# Altium schematic symbol library B105connectors.SchLib: 48 symbols
Pins are listed as number, name and electrical type; pins without a type are passive.

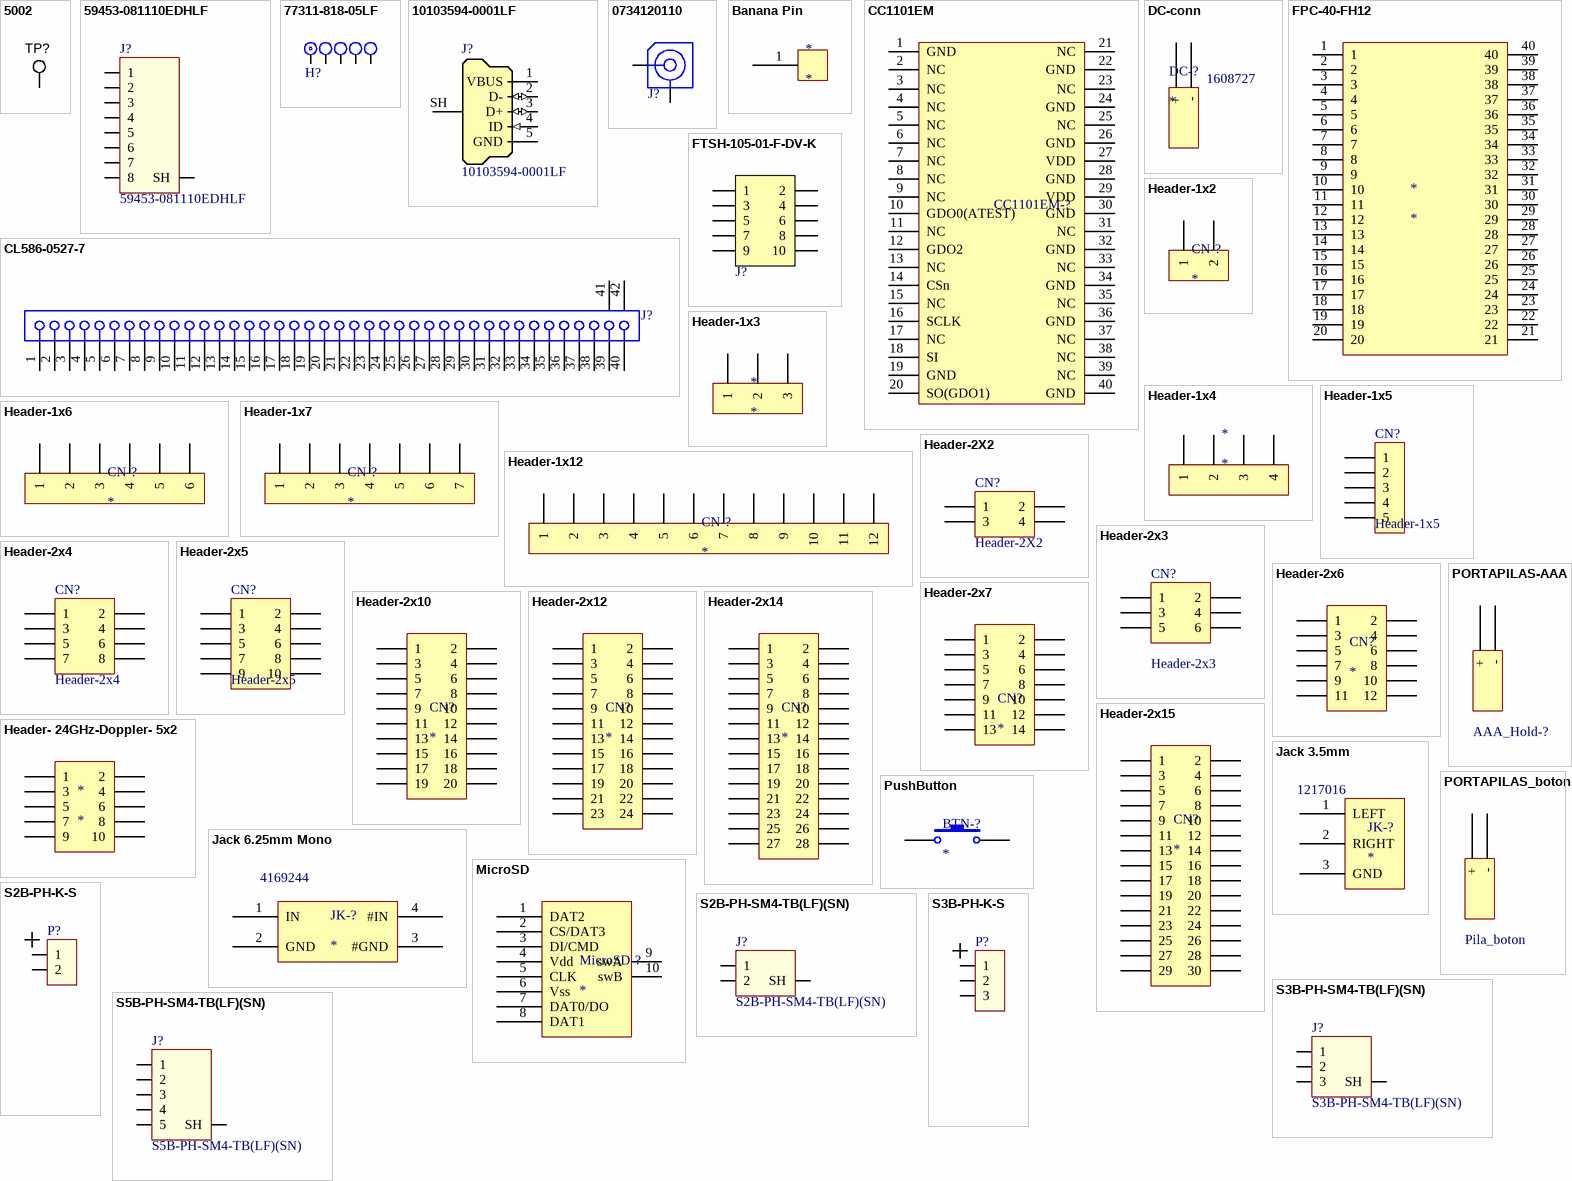
[diagram p0: symbols 5002 to S5B-PH-SM4-TB(LF)(SN)]

## 5002
designator TP?  (value not drawn)
Test Point, Miniature, White, TH; Manufacturer: Keystone; CompType: Test Point Loop; U/M: EA; SymbolVersion: 2008-04-04; Value: White; RoHS: Y; PackageReference: White Miniature Testpoint; MountType: TH; ComponentLink1Description: Datasheet Link; ComponentLink1URL: http://www.keyelco.com/userAssets/file/M60-2p60.pdf; Publisher: Texas Instruments; LatestRevisionDate: 2013-07-11; Supplier 1: Digi-Key; Supplier Part Number 1: 5002K-ND; Supplier 2: Newark; Supplier Part Number 2: 82H9632; Manufacturer Part Number: 5002
footprint Keystone5002
pins: 1

## 59453-081110EDHLF
designator J?
CONN FPC BOTTOM 8POS 0.50MM R/A; Manufacturer: Amphenol FCI; Connector/Contact Type: Contacts, Bottom; Number of Positions: 8; Pitch: 0.020" (0.50mm); FFC, FCB Thickness: 0.20mm; Locking Feature: Flip Lock, Backlock; Cable End Type: Notched; Actuator Material: Thermoplastic, Glass Filled, Halogen Free; Voltage Rating: 50V; Material Flammability Rating: UL94 V-0; Current Rating: 0.4A; Supplier 1: Digi-Key; Supplier Part Number 1: 59453-081110EDHLF-ND; Manufacturer Part Number: 59453-081110EDHLF; RoHS: RoHS Compliant; Category: Connectors, Interconnects; Packaging: Tape & Reel (TR); Part Status: Active; Flat Flex Type: FPC; Mounting Type: Surface Mount, Right Angle; Termination: Solder; Height Above Board: 0.036" (0.90mm); Contact Material: Copper Alloy; Contact Finish: Gold; Housing Material: Thermoplastic, Glass Filled, Halogen Free; Features: Solder Retention, Zero Insertion Force (ZIF); Operating Temperature: -55°C ~ 85°C; ComponentLink1URL: http://portal.fciconnect.com/Comergent//fci/drawing/59453-0_1110edhlf.pdf; ComponentLink1Description: http://portal.fciconnect.com/Comergent//fci/drawing/59453-0_1110edhlf.pdf; Supplier 2: Mouser; Supplier Part Number 2: 649-59453081110EDHLF
footprint 59453-081110ECHLF
pins: 1, 2, 3, 4, 5, 6, 7, 8, S SH

## 77311-818-05LF
designator H?  (value not drawn)
CONN HEADER .100 SINGL STR 5POS; Manufacturer: Amphenol FCI; Manufacturer Part Number: 77311-818-05LF; Pitch - Mating: 0.100" (2.54mm); Style: Board to Board; Shrouding: Unshrouded; Number of Positions: 5; Number of Positions Loaded: All; Contact Length - Mating: 0.230" (5.84mm); Contact Length - Post: 0.120" (3.05mm); Overall Contact Length: 0.450" (11.43mm); Material Flammability Rating: UL94 V-0; Supplier 1: Digi-Key; Supplier Part Number 1: 609-5127-ND; RoHS: RoHS Compliant; Category: Connectors, Interconnects; Stock: 2617; Pricing: 1=0.32, 10=0.302, 100=0.2117, 500=0.18146, 1000=0.15122, 5000=0.12962, 10000=0.12098 (EUR); Packaging: Bulk; Part Status: Active; Connector Type: Header; Contact Type: Male Pin; Number of Rows: 1; Row Spacing - Mating: -; Mounting Type: Through Hole; Termination: Solder; Fastening Type: -; Insulation Height: 0.100" (2.54mm); Contact Shape: Square; Contact Finish - Mating: Gold or Gold, GXT™; Contact Finish Thickness - Mating: 15µin (0.38µm); Contact Finish - Post: Tin; Contact Material: Phosphor Bronze; Insulation Material: Thermoplastic; Features: -; Operating Temperature: -; Ingress Protection: -; Insulation Color: Black; Current Rating: -; Voltage Rating: -; Mated Stacking Heights: -; Contact Finish Thickness - Post: 78.7µin (2.00µm); Applications: -; ComponentLink1URL: http://portal.fciconnect.com/Comergent//fci/drawing/77311.pdf; ComponentLink1Description: http://portal.fciconnect.com/Comergent//fci/drawing/77311.pdf; Supplier 2: Mouser; Supplier Part Number 2: 649-77311-818-05LF
footprint J1x5
pins: 1, 2, 3, 4, 5

## 10103594-0001LF
designator J?
CONN RCPT STD MICRO USB TYPE B; Manufacturer: Amphenol FCI; Connector Type: USB - micro B; Number of Contacts: 5; Gender: Receptacle; Specifications: USB 2.0; Supplier 1: Digi-Key; Supplier Part Number 1: 609-4050-1-ND; Manufacturer Part Number: 10103594-0001LF; RoHS: RoHS Compliant; Category: Connectors, Interconnects; Packaging: Cut Tape (CT); Part Status: Active; Mounting Type: Surface Mount, Right Angle, Horizontal; Features: Shielded, Solder Retention; Ingress Protection: -; ComponentLink1URL: http://portal.fciconnect.com/Comergent//fci/drawing/10103594.pdf; ComponentLink1Description: http://portal.fciconnect.com/Comergent//fci/drawing/10103594.pdf; Supplier 2: Mouser; Supplier Part Number 2: 649-10103594-0001LF; Supplier 3: Farnell; Supplier Part Number 3: 2293752; Supplier 4: RS Components; Supplier Part Number 4: 7142347
footprint 10103594-0001LF
pins: 1 VBUS (power), 2 D- (io), 3 D+ (io), 4 ID (in), 5 GND (power), SH Shell

## 0734120110
designator J?, comment 073412-0110  (value not drawn)
50 Ohms, MCRF, PCB Vertical Jack Receptacle, SMT, 1.25mm Mounted Height; Manufacturer: Molex, LLC; Manufacturer Part Number: 0734120110; Connector Style: Ultra Miniature Coaxial; Connector Type: Receptacle, Male Pin; Contact Termination: Solder; Impedance: 50 Ohm; Frequency - Max: 6GHz; Body Material: Phosphor Bronze; Body Finish: Nickel; Center Contact Material: Brass; Center Contact Plating: Gold; Dielectric Material: Liquid Crystal Polymer (LCP); Voltage Rating: 60V; Supplier 1: Digi-Key; Supplier Part Number 1: WM5587CT-ND; RoHS: RoHS Compliant; Category: Connectors, Interconnects; Packaging: Cut Tape (CT); Shield Termination: Solder; Mounting Type: Surface Mount; Cable Group: -; Fastening Type: Snap-On; Features: -; Housing Color: Silver; Ingress Protection: -; Operating Temperature: -40°C ~ 90°C; ComponentLink1URL: http://www.molex.com/pdm_docs/sd/734120110_sd.pdf; ComponentLink1Description: http://www.molex.com/pdm_docs/sd/734120110_sd.pdf; Supplier 2: Mouser; Supplier Part Number 2: 538-73412-0110; Supplier 3: Farnell; Supplier Part Number 3: 1340200; PartNumber: 073412-0110
footprint 0734120110 (50 Ohms, MCRF, PCB Vertical Jack Receptacle, SMT, 1.25mm Mounted Height)
pins: 1 Signal "Signal Pin", 2 GND (power)

## Banana Pin
designator *
footprint Banana Pin Black (CT3151SP-0)
footprint Banana Pin Red (CT3151SP-2)
pins: 1 0

## CC1101EM
designator CC1101EM-?  (value not drawn)
footprint CC1101EM_CONN; pin to pad 1>P1-1 2>P1-2 3>P1-3 4>P1-4 5>P1-5 6>P1-6 7>P1-7 8>P1-8 9>P1-9 10>P1-10 11>P1-11 12>P1-12 13>P1-13 14>P1-14 15>P1-15 16>P1-16 17>P1-17 18>P1-18 19>P1-19 20>P1-20 21>P2-1 22>P2-2 23>P2-3 24>P2-4 25>P2-5 26>P2-6 27>P2-7 28>P2-8 29>P2-9 30>P2-10 31>P2-11 32>P2-12 33>P2-13 34>P2-14 35>P2-15 36>P2-16 37>P2-17 38>P2-18 39>P2-19 40>P2-20
pins: 1 GND (power), 2 NC, 3 NC, 4 NC, 5 NC, 6 NC, 7 NC, 8 NC, 9 NC, 10 GDO0(ATEST), 11 NC, 12 GDO2, 13 NC, 14 CSn, 15 NC, 16 SCLK, 17 NC, 18 SI, 19 GND, 20 SO(GDO1), 21 NC, 22 GND (power), 23 NC, 24 GND (power), 25 NC, 26 GND (power), 27 VDD (power), 28 GND (power), 29 VDD (power), 30 GND (power), 31 NC, 32 GND (power), 33 NC, 34 GND (power), 35 NC, 36 GND (power), 37 NC, 38 NC, 39 NC, 40 GND (power)

## CL586-0527-7
designator J?
FH12 Series, "Flip-Lock" SMT/ZIF FFC/FPC Connector - 0.5mm Spaced Bottom Contact; Positions: 40; ContactMaterial: Phosphor Bronze; Current: 0.4A; PCB_Layout: Complies with manufacturer's recommendation.; Published: 17-Jul-2002; DatasheetVersion: 13-Nov-2000; PackageVersion: 13-Nov-2000; PackageReference: FH12-40S-0.5SH; Publisher: Altium Limited; PadDimensions: Follow nominal values, Suitable for Wave Soldering, Adjust for Re-flow.; ComponentLink1Description: Manufacturer Link; ComponentLink1URL: http://www.hiroseusa.com/; ComponentLink2Description: Datasheet; ComponentLink2URL: http://www.hirose.co.jp/cataloge_hp/e58605370.pdf
footprint FH12-40S-0.5SH (Connector; FH12 Series; 40 Position; 0.5mm Spaced Bottom Contact)
pins: 1, 2, 3, 4, 5, 6, 7, 8, 9, 10, 11, 12, 13, 14, 15, 16, 17, 18, 19, 20, 21, 22, 23, 24, 25, 26, 27, 28, 29, 30, 31, 32, 33, 34, 35, 36, 37, 38, 39, 40, 41 MH1, 42 MH2

## DC-conn
designator DC-?  Supplier Part Number 1: 1608727
Supplier 1: Farnell
footprint DC-Conn-RAPC 722
footprint DC-Conn-FC681465P
footprint DC-Conn-PJ-063AH; pin to pad +>1 ->2
pins: +, -

## FPC-40-FH12
designator *
pins: 1, 2, 3, 4, 5, 6, 7, 8, 9, 10, 11, 12, 13, 14, 15, 16, 17, 18, 19, 20, 21, 22, 23, 24, 25, 26, 27, 28, 29, 30, 31, 32, 33, 34, 35, 36, 37, 38, 39, 40

## FTSH-105-01-F-DV-K
designator J?  (value not drawn)
CONN HEADER 10POS DUAL .05" SMD; Manufacturer: Samtec Inc.; Connector Type: Header, Unshrouded; Number of Positions: 10; Number of Positions Loaded: All; Pitch: 0.050" (1.27mm); Style: Board to Board or Cable; Shrouding: Unshrouded; Contact Length - Mating: 0.120" (3.05mm); Material Flammability Rating: UL94 V-0; Current Rating: 3.3A per Contact; Supplier 1: Digi-Key; Supplier Part Number 1: SAM8796-ND; Manufacturer Part Number: FTSH-105-01-F-DV-K; RoHS: RoHS Compliant; Category: Connectors, Interconnects; Packaging: Tube; Contact Type: Male Pin; Number of Rows: 2; Row Spacing: 0.050" (1.27mm); Contact Mating Length: 0.120" (3.05mm); Mounting Type: Surface Mount; Termination: Solder; Fastening Type: -; Features: Keying Shroud; Contact Finish: Gold; Contact Finish Thickness: 3µin (0.08µm); Color: Black; ComponentLink1URL: http://suddendocs.samtec.com/prints/ftsh-1xx-xx-xxx-dv-xxx-mkt.pdf; ComponentLink1Description: http://suddendocs.samtec.com/prints/ftsh-1xx-xx-xxx-dv-xxx-mkt.pdf; Stock 1: 15151; Pricing 1: 1=2.71, 10=2.604, 25=2.3868, 50=2.2782, 100=2.1697, 250=1.89844, 500=1.84422, 1000=1.57301, 2500=1.46452 (EUR); Part Status: Active; Pitch - Mating: 0.050" (1.27mm); Row Spacing - Mating: 0.050" (1.27mm); Contact Length - Post: -; Overall Contact Length: -; Insulation Height: 0.099" (2.51mm); Contact Shape: Square; Contact Finish - Mating: Gold; Contact Finish Thickness - Mating: 3µin (0.08µm); Contact Finish - Post: Tin; Contact Material: Phosphor Bronze; Insulation Material: Liquid Crystal Polymer (LCP); Operating Temperature: -55°C ~ 125°C; Ingress Protection: -; Insulation Color: Black; Voltage Rating: -; Mated Stacking Heights: -; Contact Finish Thickness - Post: -; Applications: -; ComponentLink2URL: http://suddendocs.samtec.com/prints/ftsh-1xx-xx-xxx-dv-xxx-xxx-mkt.pdf; ComponentLink2Description: http://suddendocs.samtec.com/prints/ftsh-1xx-xx-xxx-dv-xxx-xxx-mkt.pdf
footprint FTSH-105-K
pins: 1, 2, 3, 4, 5, 6, 7, 8, 9, 10

## Header-1x2
designator CN-?
footprint HEADER-1x2
footprint HEADER-1x2-Jumper
footprint Bat-Con-S2B-PH-K-S (2-pin, through-hole PH series JST connector, 2mm pitch.)
footprint TERMINAL BLOCK 2POS 5MM (Terminal Block, 2Pos, 5mm pitch)
pins: 1, 2

## Header-1x3
designator *
footprint Header-1x3
footprint Header-1x3-Jumper
footprint Bat-Con-S3B-XH-A (3-pin, through-hole XH series JST connector, 2.5mm pitch.)
footprint TERMINAL BLOCK 3POS 5MM (Terminal Block, 3Pos, 5mm pitch)
pins: 1, 2, 3

## Header-1x4
designator *
footprint HEADER-1X4
footprint HEADER-1X4 - JST
pins: 1, 2, 3, 4

## Header-1x5
designator CN?
Header, 5-Pin, Single row; LatestRevisionDate: 17-Jul-2002; LatestRevisionNote: Re-released for DXP Platform.; Publisher: Altium Limited
signal-integrity model Connector
footprint HEADER-1X5 (Connector; Header; 5x1 Position)
pins: 1, 2, 3, 4, 5

## Header-1x6
designator CN-?
footprint Header-1x6
footprint MOLEX-53261-0671
pins: 1, 2, 3, 4, 5, 6

## Header-1x7
designator CN-?
footprint Header-1x7
pins: 1, 2, 3, 4, 5, 6, 7

## Header-1x12
designator CN-?
footprint HEADER-1x12
pins: 1, 2, 3, 4, 5, 6, 7, 8, 9, 10, 11, 12

## Header-2X2
designator CN?
Header, 2-Pin, Dual row; LatestRevisionDate: 17-Jul-2002; LatestRevisionNote: Re-released for DXP Platform.; Publisher: Altium Limited
signal-integrity model Connector
footprint HEADER-2X2 (Connector; Header; 2x2 Position)
pins: 1, 2, 3, 4

## Header-2x3
designator CN?
Header, 3-Pin, Dual row; LatestRevisionDate: 17-Jul-2002; LatestRevisionNote: Re-released for DXP Platform.; Publisher: Altium Limited
footprint HEADER-2X3 (Connector; Header; 3x2 Position)
pins: 1, 2, 3, 4, 5, 6

## Header-2x4
designator CN?
Header, 4-Pin, Dual row; LatestRevisionDate: 17-Jul-2002; LatestRevisionNote: Re-released for DXP Platform.; Publisher: Altium Limited
signal-integrity model Connector
footprint HEADER-2X4 (Connector; Header; 4x2 Position)
pins: 1, 2, 3, 4, 5, 6, 7, 8

## Header-2x5
designator CN?
Header, 5-Pin, Dual row; LatestRevisionDate: 17-Jul-2002; LatestRevisionNote: Re-released for DXP Platform.; Publisher: Altium Limited
signal-integrity model Connector
footprint HEADER-2X5 (Connector; Header; 4x2 Position)
footprint HEADER-2X5 JTAG (Connector; Header; 5x2 Position)
pins: 1, 2, 3, 4, 5, 6, 7, 8, 9, 10

## Header-2x6
designator CN?
footprint Header-2x6 (Connector; Header; 6x2 Position)
pins: 1, 2, 3, 4, 5, 6, 7, 8, 9, 10, 11, 12

## Header-2x7
designator CN?
footprint Header-2x7 (Connector; Header; 7x2 Position)
pins: 1, 2, 3, 4, 5, 6, 7, 8, 9, 10, 11, 12, 13, 14

## Header-2x10
designator CN?
footprint Header-2x10 (Connector; Header; 10x2 Position)
pins: 1, 2, 3, 4, 5, 6, 7, 8, 9, 10, 11, 12, 13, 14, 15, 16, 17, 18, 19, 20

## Header-2x12
designator CN?
footprint Header-2x12 (Connector; Header; 12x2 Position)
pins: 1, 2, 3, 4, 5, 6, 7, 8, 9, 10, 11, 12, 13, 14, 15, 16, 17, 18, 19, 20, 21, 22, 23, 24

## Header-2x14
designator CN?
footprint Header-2x14 (Connector; Header; 10x2 Position)
pins: 1, 2, 3, 4, 5, 6, 7, 8, 9, 10, 11, 12, 13, 14, 15, 16, 17, 18, 19, 20, 21, 22, 23, 24, 25, 26, 27, 28

## Header-2x15
designator CN?
footprint Header-2x15 (Connector; Header; 10x2 Position)
pins: 1, 2, 3, 4, 5, 6, 7, 8, 9, 10, 11, 12, 13, 14, 15, 16, 17, 18, 19, 20, 21, 22, 23, 24, 25, 26, 27, 28, 29, 30

## Header- 24GHz-Doppler- 5x2
designator *
footprint HEADER-Doppler-24GHz-Double
pins: 1, 2, 3, 4, 5, 6, 7, 8, 9, 10

## Jack 3.5mm
designator JK-?  Supplier Part Number 1: 1217016
Supplier 1: Farnell
footprint Jack Stereo 3.5mm
footprint Jack- SJ1-3555NG; pin to pad 1>2 2>3 3>1
pins: 1 LEFT, 2 RIGHT, 3 GND

## Jack 6.25mm Mono
designator JK-?  Supplier Part Number 1: 4169244
Supplier 1: Farnell
footprint Jack Mono 6.35mm
pins: 1 IN, 2 GND, 3 #GND, 4 #IN

## MicroSD
designator MicroSD-?
footprint MicroSD
pins: 1 DAT2, 2 CS/DAT3, 3 DI/CMD, 4 Vdd, 5 CLK, 6 Vss, 7 DAT0/DO, 8 DAT1, 9 swA, 10 swB

## PORTAPILAS-AAA
designator AAA_Hold-?  (value not drawn)
footprint PORTAPILAS-AAA
pins: +, -

## PORTAPILAS_boton
designator Pila_boton, comment PORTAPILAS-boton  (value not drawn)
footprint PORTAPILAS-boton-2032
pins: +, -

## PushButton
designator BTN-?
footprint PushButton
footprint Push button SMD 2 leads
footprint PushButton SMD 4 leads
footprint 6x3.5mm Button SMD 2
pins: 1, 2

## S2B-PH-K-S
designator P?
2.0 mm pitch side entry header, 2 positions
footprint S2B-PH-K-S (PH Connector 2mm pitch, side entry)
pins: 1, 2

## S2B-PH-SM4-TB(LF)(SN)
designator J?
CONN HEADER PH SIDE 2POS 2MM SMD; Manufacturer: JST Sales America Inc.; Pitch - Mating: 0.079" (2.00mm); Shrouding: Shrouded - 4 Wall; Number of Positions: 2; Number of Positions Loaded: All; Contact Length - Mating: 0.130" (3.30mm); Supplier 1: Digi-Key; Supplier Part Number 1: 455-1749-1-ND; RoHS: RoHS Compliant; Category: Connectors, Interconnects; Stock 1: 132484; Pricing 1: 1=0.54, 10=0.511, 100=0.3916, 500=0.34048 (EUR); Packaging: Cut Tape (CT); Part Status: Active; Connector Type: Header; Contact Type: Male Pin; Number of Rows: 1; Row Spacing - Mating: -; Mounting Type: Surface Mount, Right Angle; Termination: Solder; Fastening Type: Detent Lock; Features: Solder Retention; Contact Finish - Mating: Tin; Contact Finish Thickness - Mating: -; Insulation Color: Natural; Ingress Protection: -; ComponentLink1URL: http://www.jst-mfg.com/product/pdf/eng/ePH.pdf; ComponentLink1Description: http://www.jst-mfg.com/product/pdf/eng/ePH.pdf; Supplier 2: Farnell; Supplier Part Number 2: 9492615; Supplier 3: Farnell; Supplier Part Number 3: 1772878; Manufacturer Part Number: S2B-PH-SM4-TB(LF)(SN)
footprint JST S2B-PH-SM4-TB (JST PH Series 2mm pitch, side entry connector)
pins: 1, 2, S SH

## S3B-PH-K-S
designator P?
2.0 mm pitch side entry header, 3 positions
footprint S3B-PH-K-S (PH Connector 2mm pitch, side entry)
pins: 1, 2, 3

## S3B-PH-SM4-TB(LF)(SN)
designator J?
CONN HEADER PH SIDE 3POS 2MM SMD; Manufacturer: JST Sales America Inc.; Pitch - Mating: 0.079" (2.00mm); Shrouding: Shrouded - 4 Wall; Number of Positions: 3; Number of Positions Loaded: All; Contact Length - Mating: 0.130" (3.30mm); Supplier 1: Digi-Key; Supplier Part Number 1: 455-1750-1-ND; RoHS: RoHS Compliant; Category: Connectors, Interconnects; Stock 1: 54734; Pricing 1: 1=0.64, 10=0.6, 100=0.4602, 500=0.40018 (EUR); Packaging: Cut Tape (CT); Part Status: Active; Connector Type: Header; Contact Type: Male Pin; Number of Rows: 1; Row Spacing - Mating: -; Mounting Type: Surface Mount, Right Angle; Termination: Solder; Fastening Type: Detent Lock; Features: Solder Retention; Contact Finish - Mating: Tin; Contact Finish Thickness - Mating: -; Insulation Color: Natural; Ingress Protection: -; ComponentLink1URL: http://www.jst-mfg.com/product/pdf/eng/ePH.pdf; ComponentLink1Description: http://www.jst-mfg.com/product/pdf/eng/ePH.pdf; Supplier 2: Farnell; Supplier Part Number 2: 9492623; Supplier 3: RSComponents; Supplier Part Number 3: 6881357; Manufacturer Part Number: S3B-PH-SM4-TB(LF)(SN)
footprint JST S3B-PH-SM4-TB (JST PH Series 2mm pitch, side entry connector)
pins: 1, 2, 3, S SH

## S5B-PH-SM4-TB(LF)(SN)
designator J?
CONN HEADER PH SIDE 5POS 2MM SMD; Manufacturer: JST Sales America Inc.; Pitch - Mating: 0.079" (2.00mm); Shrouding: Shrouded - 4 Wall; Number of Positions: 5; Number of Positions Loaded: All; Contact Length - Mating: 0.130" (3.30mm); Supplier 1: Digi-Key; Supplier Part Number 1: 455-1752-1-ND; RoHS: RoHS Compliant; Category: Connectors, Interconnects; Stock 1: 16524; Pricing 1: 1=0.77, 10=0.724, 100=0.5555, 500=0.483 (EUR); Packaging: Cut Tape (CT); Part Status: Active; Connector Type: Header; Contact Type: Male Pin; Number of Rows: 1; Row Spacing - Mating: -; Mounting Type: Surface Mount, Right Angle; Termination: Solder; Fastening Type: Detent Lock; Features: Solder Retention; Contact Finish - Mating: Tin; Contact Finish Thickness - Mating: -; Insulation Color: Natural; Ingress Protection: -; ComponentLink1URL: http://www.jst-mfg.com/product/pdf/eng/ePH.pdf; ComponentLink1Description: http://www.jst-mfg.com/product/pdf/eng/ePH.pdf; Supplier 2: Farnell; Supplier Part Number 2: 9492640; Manufacturer Part Number: S5B-PH-SM4-TB(LF)(SN)
footprint JST S5B-PH-SM4-TB (JST PH Series 2mm pitch, side entry connector)
pins: 1, 2, 3, 4, 5, S SH

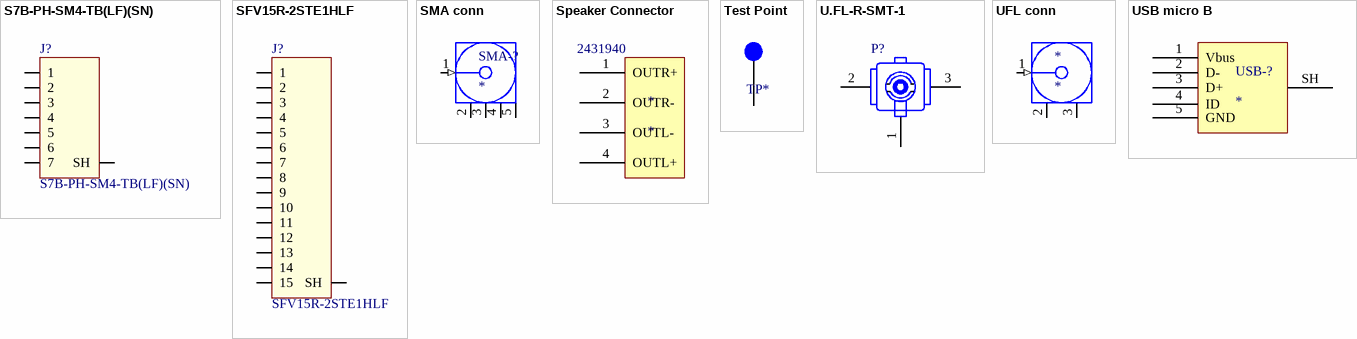
[diagram p1: symbols S7B-PH-SM4-TB(LF)(SN) to USB micro B]

## S7B-PH-SM4-TB(LF)(SN)
designator J?
CONN HEADER PH SIDE 7POS 2MM SMD; Manufacturer: JST Sales America Inc.; Pitch - Mating: 0.079" (2.00mm); Shrouding: Shrouded - 4 Wall; Number of Positions: 7; Number of Positions Loaded: All; Contact Length - Mating: 0.130" (3.30mm); Supplier 1: Digi-Key; Supplier Part Number 1: 455-1754-1-ND; RoHS: RoHS Compliant; Category: Connectors, Interconnects; Stock 1: 17179; Pricing 1: 1=0.85, 10=0.745, 100=0.6425, 500=0.52566 (EUR); Packaging: Cut Tape (CT); Part Status: Active; Connector Type: Header; Contact Type: Male Pin; Number of Rows: 1; Row Spacing - Mating: -; Mounting Type: Surface Mount, Right Angle; Termination: Solder; Fastening Type: Detent Lock; Features: Solder Retention; Contact Finish - Mating: Tin; Contact Finish Thickness - Mating: -; Insulation Color: Natural; Ingress Protection: -; ComponentLink1URL: http://www.jst-mfg.com/product/pdf/eng/ePH.pdf; ComponentLink1Description: http://www.jst-mfg.com/product/pdf/eng/ePH.pdf; Supplier 2: Farnell; Supplier Part Number 2: 9492666; Supplier 3: RSComponents; Supplier Part Number 3: 6881363; Manufacturer Part Number: S7B-PH-SM4-TB(LF)(SN)
footprint JST S7B-PH-SM4-TB (JST PH Series 2mm pitch, side entry connector)
pins: 1, 2, 3, 4, 5, 6, 7, S SH

## SFV15R-2STE1HLF
designator J?
CONN FFC TOP 15POS 0.50MM R/A; Manufacturer: Amphenol FCI; Flat Flex Type: FFC, FPC; Connector/Contact Type: Contacts, Top; Number of Positions: 15; Pitch: 0.020" (0.50mm); FFC, FCB Thickness: 0.30mm, 0.33mm; Locking Feature: Slide Lock; Cable End Type: Straight, Tapered; Actuator Material: Polyphenylene Sulfide (PPS), Glass Filled, Halogen Free; Voltage Rating: 50V; Material Flammability Rating: UL94 V-0; Current Rating: 0.5A; Supplier 1: Digi-Key; Supplier Part Number 1: 609-4312-1-ND; Manufacturer Part Number: SFV15R-2STE1HLF; RoHS: RoHS Compliant; Category: Connectors, Interconnects; Packaging: Cut Tape (CT); Part Status: Active; Mounting Type: Surface Mount, Right Angle; Termination: Solder; Height Above Board: 0.071" (1.80mm); Contact Material: Phosphor Bronze; Contact Finish: Tin; Housing Material: Liquid Crystal Polymer (LCP), Glass Filled, Halogen Free; Features: Solder Retention, Zero Insertion Force (ZIF); Operating Temperature: -55°C ~ 105°C; ComponentLink1URL: http://portal.fciconnect.com/Comergent//fci/drawing/10112793.pdf; ComponentLink1Description: http://portal.fciconnect.com/Comergent//fci/drawing/10112793.pdf; Supplier 2: Mouser; Supplier Part Number 2: 649-SFV15R-2STE1HLF
footprint SFV15R-2STE1HLF
pins: 1, 2, 3, 4, 5, 6, 7, 8, 9, 10, 11, 12, 13, 14, 15, S SH

## SMA conn
designator SMA-?
footprint SMA-conn
footprint Jack SMA 142-0701-801 (SMA 50 Ohm End Launch Jack Receptacle - Round Contact)
pins: 1 Signal (in) "Signal Pin", 2 GND (power), 3 GND (power), 4 GND (power), 5 GND (power)

## Speaker Connector
designator *  Supplier Part Number 1: 2431940
Supplier 1: Farnell
footprint Speaker Connector
pins: 1 OUTR+, 2 OUTR-, 3 OUTL-, 4 OUTL+

## Test Point
designator TP*  (value not drawn)
footprint Test Point 0.3mm (Diameter 0.8 mm; Hole size 0.3 mm)
footprint Test Point 0.9mm (Diameter 1.5 mm; Hole size 0.9 mm)
footprint Test Point 1mm (Diameter 1.5 mm; Hole size 1 mm)
footprint Keystone5002
pins: 1 "TP*"

## U.FL-R-SMT-1
designator P?, comment Copy of A08-0629  (value not drawn)
UFL (Small Coax Connector); PartGroup: Mechanical devices,Connectors,Coaxial; Manufacturer: HIROSE; MPN: U.FL-R-SMT-1(10); AN: A08-0838; ComponentStatus: 'Active (verified)'; Height: 1.25; FootprintStatus: 'Active (Verified)'
footprint U.FL-R-SMT-1 (UFL (Small Coax Connector))
pins: 1 SIG, 2 GND (power), 3 GND (power)

## UFL conn
designator *
footprint UFL conn (UFL SMD connector)
pins: 1 Signal (in) "Signal Pin", 2 GND (power), 3 GND (power)

## USB micro B
designator USB-?
footprint USB-MicroB
footprint 10103594-0001LF
pins: 1 Vbus, 2 D-, 3 D+, 4 ID, 5 GND, SH NC